# Altium schematic symbol library conn5.SchLib: 1 symbol
Pins are listed as number, name and electrical type; pins without a type are passive.

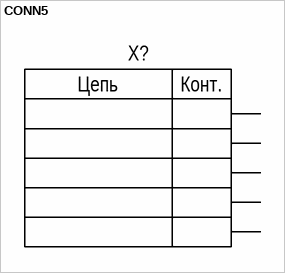
[diagram p0: symbol CONN5]

## CONN5
designator X?
pins: 1, 2, 3, 4, 5
text: Цепь; Конт.